# EAGLE library part CMX882 (library cml-micro)
Baseband Processor Full-Feature Audio-Processing, Signalling and GPS Data for FRS, MURS, PMR446 and GMRS Leisure Radios
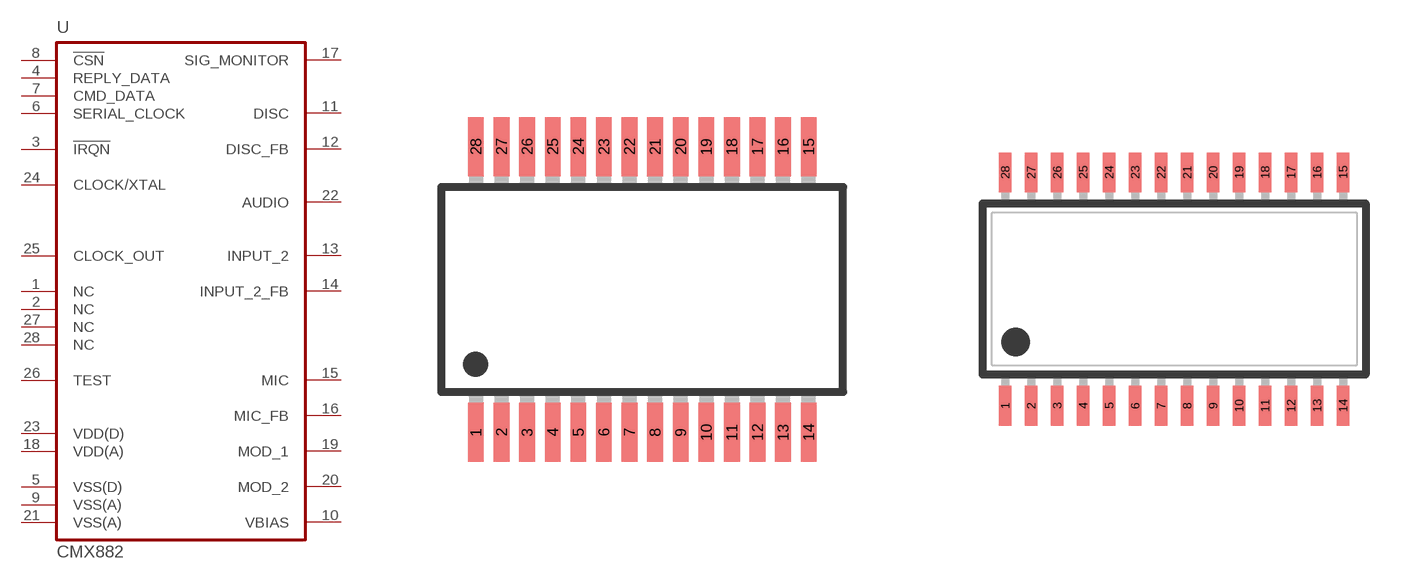
[diagram p12: symbol with the pads of SSOP28; footprints SSOP28, TSSOP28]

Designator prefix U

## CMX882D6  [SSOP28]
1  NC
2  NC
3  !IRQN!  oc
4  REPLY_DATA
5  VSS(D)  pwr
6  SERIAL_CLOCK  in
7  CMD_DATA  in
8  !CSN!  in
9  VSS(A)  pwr
10  VBIAS  out
11  DISC  in
12  DISC_FB  out
13  INPUT_2  in
14  INPUT_2_FB  out
15  MIC  in
16  MIC_FB  out
17  SIG_MONITOR  pas
18  VDD(A)  pwr
19  MOD_1  out
20  MOD_2  out
21  VSS(A)  pwr
22  AUDIO  out
23  VDD(D)  pwr
24  CLOCK/XTAL  in
25  CLOCK_OUT  out
26  TEST  in
27  NC
28  NC

## CMX882E1  [TSSOP28]
Pads as for SSOP28

## Footprint SSOP28 (pad centres in mm)
Shrink Small Outline Package 5.2mm body
smd 0.4 x 1.5: 1 -4.225,-3.625; 2 -3.575,-3.625; 3 -2.925,-3.625; 4 -2.275,-3.625; 5 -1.625,-3.625; 6 -0.975,-3.625; 7 -0.325,-3.625; 8 0.325,-3.625; 9 0.975,-3.625; 10 1.625,-3.625; 11 2.275,-3.625; 12 2.925,-3.625; 13 3.575,-3.625; 14 4.225,-3.625; 15 4.225,3.625; 16 3.575,3.625; 17 2.925,3.625; 18 2.275,3.625; 19 1.625,3.625; 20 0.975,3.625; 21 0.325,3.625; 22 -0.325,3.625; 23 -0.975,3.625; 24 -1.625,3.625; 25 -2.275,3.625; 26 -2.925,3.625; 27 -3.575,3.625; 28 -4.225,3.625

## Footprint TSSOP28 (pad centres in mm)
Thin Shrink Small Outline Plastic 28
smd 0.305 x 0.991: 1 -4.225,-2.918; 2 -3.575,-2.918; 3 -2.925,-2.918; 4 -2.275,-2.918; 5 -1.625,-2.918; 6 -0.975,-2.918; 7 -0.325,-2.918; 8 0.325,-2.918; 9 0.975,-2.918; 10 1.625,-2.918; 11 2.275,-2.918; 12 2.925,-2.918; 13 3.575,-2.918; 14 4.225,-2.918; 15 4.225,2.918; 16 3.575,2.918; 17 2.925,2.918; 18 2.275,2.918; 19 1.625,2.918; 20 0.975,2.918; 21 0.325,2.918; 22 -0.325,2.918; 23 -0.975,2.918; 24 -1.625,2.918; 25 -2.275,2.918; 26 -2.925,2.918; 27 -3.575,2.918; 28 -4.225,2.918